# EAGLE library part LM2776 (library CougsInSpace-IC-Power)
Switced Capacitor Inverter LM2776 <https://github.com/CougsInSpace/Resources/blob/master/SupplierDocuments/Ti/LM2776_SwitchedCapacitorInverter.pdf>
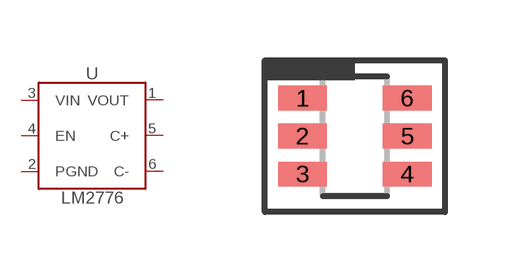
[diagram p8: symbol with the pads of SOT23-6; footprint SOT23-6]

Designator prefix U

## LM2776 (SKU: 60-0011; VALUE: LM2776)  [SOT23-6]
1  VOUT  out
2  PGND  pwr
3  VIN  in
4  EN  in
5  C+  pas
6  C-  pas

## Footprint SOT23-6 (pad centres in mm)
SOT23 - 6 Pin
smd 1.22 x 0.62: 1 -1.31,0.95; 2 -1.31,0; 3 -1.31,-0.95; 4 1.31,-0.95; 5 1.31,0; 6 1.31,0.95